# Altium footprint library PcbLib1.PcbLib: 6 footprints
Each footprint in its own frame and in the unit in brackets; x right, y up, seen from the top. Pads: shape width x height; smd on the part's side, far side on the other; paste and mask are expansions set on the pad; w line width, h text height; cw(c..) or ccw(c..) is an arc to the next point about the centre after c.
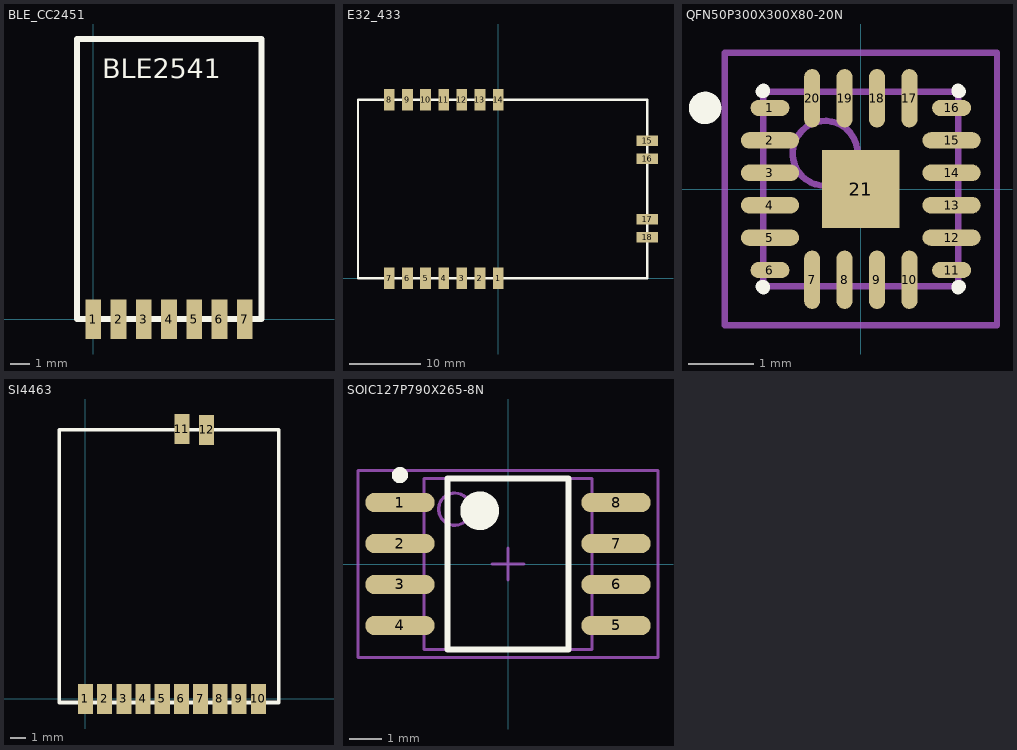
[diagram p0: the footprints below, top view; thin cyan lines are the x and y axes]

## BLE_CC2451 [mm]
pads (7):
  rect 0.8x2 smd: 1(0,0) 2(1.27,0) 3(2.54,0) 4(3.81,0) 5(5.08,0) 6(6.35,0) 7(7.62,0)
Top Overlay:
  lines w0.3: -0.813,0 8.458,0 8.458,14.097 -0.813,14.097 -0.813,0
  text "BLE2541" at 0.457,12.116 h1

## E32_433 [mm]
pads (18):
  rect 1.5x3 smd: 1(0,0) 2(-2.54,0) 3(-5.08,0) 4(-7.62,0) 5(-10.16,0) 6(-12.7,0) 7(-15.24,0) 8(-15.24,25) 9(-12.7,25) 10(-10.16,25) 11(-7.62,25) 12(-5.08,25) 13(-2.54,25) 14(0,25)
  rect 3x1.5 smd: 15(20.88,19.27) 16(20.88,16.73) 17(20.88,8.27) 18(20.88,5.73)
Top Overlay:
  lines w0.3: -19.62,0 20.88,0 20.88,25 -19.62,25 -19.62,0
Bottom Overlay:
  lines w0.3: -19.62,0 20.88,0 20.88,25 -19.62,25 -19.62,0
  text "E32-433T30S-V1.0" at 10.13,19.65 h1.2
  text "14 PB0" at 0.619,22.646 h1
  text "13 PB1" at -1.881,22.646 h1
  text "12 PB3" at -4.461,22.646 h1
  text "11 3.3V" at -7.041,22.646 h1
  text "10 SWIM" at -9.481,22.646 h1
  text "9 GND" at -12.131,22.646 h1
  text "8 RST" at -14.711,22.646 h1
  text "6 VCC" at -12.138,6.748 h1
  text "5 AUX" at -9.568,6.748 h1
  text "4 TXD" at -7.068,6.748 h1
  text "3 RXD" at -4.798,6.748 h1
  text "2 M1" at -2.038,6.748 h1
  text "1 M0" at 0.492,6.748 h1
  text "18 ANT" at 18.091,5.299 h1
  text "17 GND" at 18.091,7.849 h1
  text "16 GND" at 18.091,16.339 h1
  text "15 GND" at 18.091,18.849 h1
  text "7 GND" at -14.795,6.85 h1

## QFN20 [mm]

## QFN50P300X300X80-20N [mm] "QFN, 20-Leads, Body 3.0x3.0mm (max), Pitch 0.50mm, IPC Medium Density"
height 0.8
pads (21):
  oval 0.6x0.25 smd: 1(-1.4,1.25) 6(-1.4,-1.25) 11(1.4,-1.25) 16(1.4,1.25)
  oval 0.9x0.25 smd: 2(-1.4,0.75) 3(-1.4,0.25) 4(-1.4,-0.25) 5(-1.4,-0.75) 12(1.4,-0.75) 13(1.4,-0.25) 14(1.4,0.25) 15(1.4,0.75)
  oval 0.25x0.9 smd: 7(-0.75,-1.4) 8(-0.25,-1.4) 9(0.25,-1.4) 10(0.75,-1.4) 17(0.75,1.4) 18(0.25,1.4) 19(-0.25,1.4) 20(-0.75,1.4)
  rect 1.2x1.2 smd: 21(0,0)
Top Overlay:
  circle w0.25: c-2.4,1.25 r0.125
  lines w0.2: -1.525,-1.5 -1.5,-1.5 -1.5,-1.525 ; -1.525,1.5 -1.5,1.5 -1.5,1.525 ; 1.5,-1.525 1.5,-1.5 1.525,-1.5 ; 1.5,1.525 1.5,1.5 1.525,1.5
Mechanical 13:
  circle w0.1: c-0.55,0.55 r0.5
  lines w0.1: -1.5,-1.5 1.5,-1.5 1.5,1.5 -1.5,1.5 -1.5,-1.5
Mechanical 15:
  lines w0.1: -0.5,0 0.5,0 ; 0,-0.5 0,0.5 ; -2.1,-2.1 2.1,-2.1 2.1,2.1 -2.1,2.1 -2.1,-2.1
3D body: height 0.8, standoff 0.01, extent -1.5,-1.5 1.5,1.5

## SI4463 [mm]
pads (12):
  rect 1x2 smd: 1(0,0) 2(1.276,0) 3(2.551,0) 4(3.827,0) 5(5.103,0) 6(6.378,0) 7(7.654,0) 8(8.93,0) 9(10.205,0) 10(11.481,0) 11(6.401,17.907) 12(8.052,17.856)
Top Overlay:
  lines w0.254: -1.727,-0.229 12.827,-0.229 12.827,17.805 ; -1.727,-0.178 -1.727,17.856 12.827,17.856

## SOIC127P790X265-8N [mm] "SOIC, 8-Leads, Body 5.3x5.2mm (max), Pitch 1.27mm, IPC Medium Density"
height 2.65
pads (8):
  oval 2.15x0.6 smd: 1(-3.35,1.905) 2(-3.35,0.635) 3(-3.35,-0.635) 4(-3.35,-1.905) 5(3.35,-1.905) 6(3.35,-0.635) 7(3.35,0.635) 8(3.35,1.905)
Top Overlay:
  circle w0.6: c-0.875,1.65 r0.3
  circle w0.25: c-3.35,2.755 r0.125
  lines w0.2: -1.875,-2.65 1.875,-2.65 1.875,2.65 -1.875,2.65 -1.875,-2.65
Mechanical 13:
  circle w0.1: c-1.65,1.7 r0.5
  lines w0.1: -2.6,-2.65 2.6,-2.65 2.6,2.65 -2.6,2.65 -2.6,-2.65
Mechanical 15:
  lines w0.1: -0.5,0 0.5,0 ; 0,-0.5 0,0.5 ; -4.65,-2.9 4.65,-2.9 4.65,2.9 -4.65,2.9 -4.65,-2.9
3D body: height 2.65, standoff 0.1, extent -2.6,-2.65 2.6,2.65